# Altium footprint library Lib_foot_Radar.PcbLib: 80 footprints (part 2 of 5)
Each footprint in its own frame and in the unit in brackets; x right, y up, seen from the top. Pads: shape width x height; smd on the part's side, far side on the other; paste and mask are expansions set on the pad; w line width, h text height; cw(c..) or ccw(c..) is an arc to the next point about the centre after c.
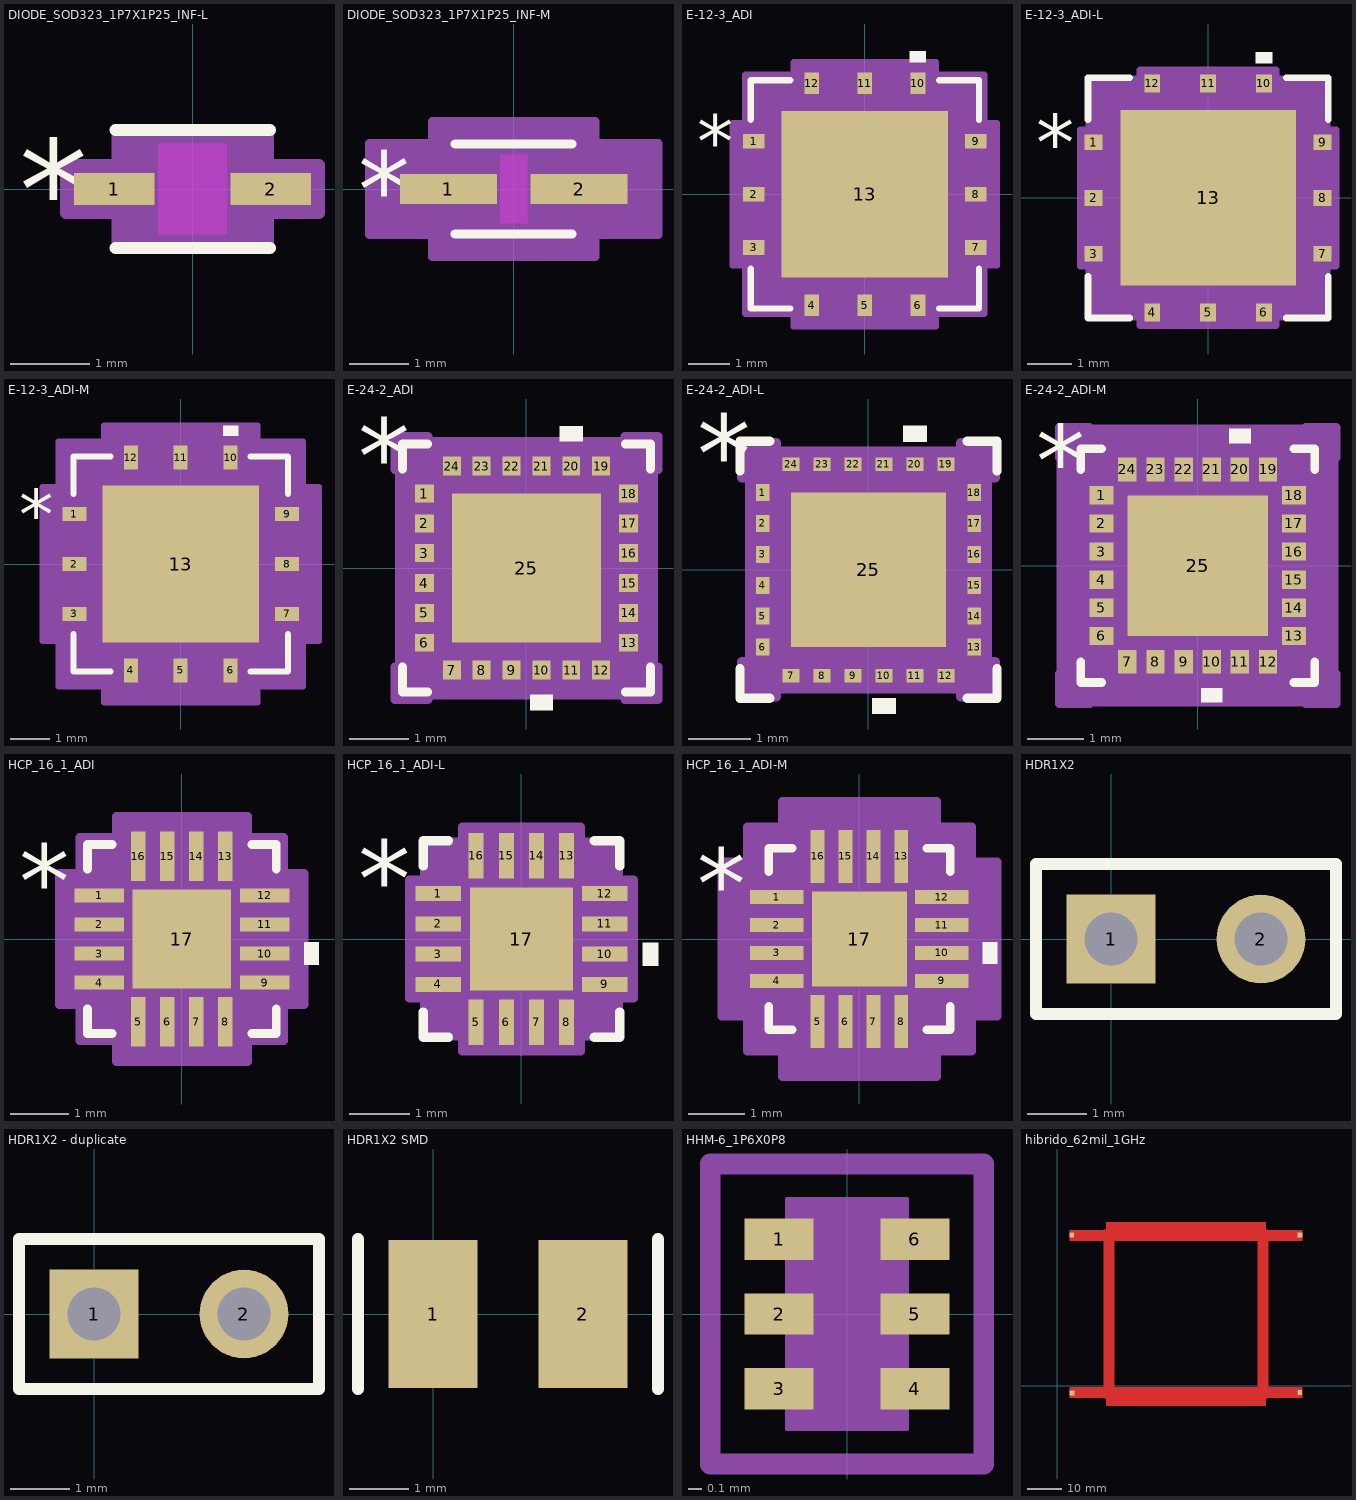
[diagram p1: the footprints below, top view; thin cyan lines are the x and y axes]

## DIODE_SOD323_1P7X1P25_INF-L [mil]
pads (2):
  rect 40x16 smd paste+0 mask+0: 1(-39,0) 2(39,0)
Top Overlay:
  lines w6: -38.5,-29.5 38.5,-29.5 ; -38.5,29.5 38.5,29.5
  text "*" at -86.5,-25 h50
Keep-Out Layer:
  region: -17,-22.5 -17,22.5 17,22.5 17,-22.5
Mechanical 13:
  lines w1: -33.5,-12.25 -21.25,-24.5 ; -33.5,12.25 -21.25,24.5 ; -53,-8 -33.5,-8 -33.5,8 -53,8 -53,-8 ; -33.5,-24.5 -33.5,24.5 33.5,24.5 33.5,-24.5 -33.5,-24.5 ; 33.5,-8 53,-8 53,8 33.5,8 33.5,-8
  text "*" at -36,-25 h50
Mechanical 15:
  region: -37.5,-12 -63,-12 -63,12 -37.5,12 -37.5,28.5 37.5,28.5 37.5,12 63,12 63,-12 37.5,-12 37.5,-28.5 -37.5,-28.5
  lines w6: -63,-12 -37.5,-12 -37.5,-28.5 37.5,-28.5 37.5,-12 63,-12 63,12 37.5,12 37.5,28.5 -37.5,28.5 -37.5,12 -63,12 -63,-12
3D body "DIODE_SOD323_1P7X1P25_INF.step": height 43.11, standoff 0, extent -52.99,-24.49 52.99,24.49

## DIODE_SOD323_1P7X1P25_INF-M [mil]
pads (2):
  rect 64x20 smd paste+0 mask+0: 1(-43,0) 2(43,0)
Top Overlay:
  lines w6: -38.5,-29.5 38.5,-29.5 ; -38.5,29.5 38.5,29.5
  text "*" at -102.5,-25 h50
Keep-Out Layer:
  region: -9,-22.5 -9,22.5 9,22.5 9,-22.5
Mechanical 13:
  lines w1: -33.5,-12.25 -21.25,-24.5 ; -33.5,12.25 -21.25,24.5 ; -53,-8 -33.5,-8 -33.5,8 -53,8 -53,-8 ; -33.5,-24.5 -33.5,24.5 33.5,24.5 33.5,-24.5 -33.5,-24.5 ; 33.5,-8 53,-8 53,8 33.5,8 33.5,-8
  text "*" at -36,-25 h50
Mechanical 15:
  region: -53.5,-30 -95,-30 -95,30 -53.5,30 -53.5,44.5 53.5,44.5 53.5,30 95,30 95,-30 53.5,-30 53.5,-44.5 -53.5,-44.5
  lines w6: -95,-30 -53.5,-30 -53.5,-44.5 53.5,-44.5 53.5,-30 95,-30 95,30 53.5,30 53.5,44.5 -53.5,44.5 -53.5,30 -95,30 -95,-30
3D body "DIODE_SOD323_1P7X1P25_INF.step": height 43.11, standoff 0, extent -52.99,-24.49 52.99,24.49

## E-12-3_ADI [mil]
pads (13):
  rect 20x14 smd paste+0 mask+0: 1(-104.5,50) 2(-104.5,0) 3(-104.5,-50) 7(104.5,-50) 8(104.5,0) 9(104.5,50)
  rect 14x20 smd paste+0 mask+0: 4(-50,-104.5) 5(0,-104.5) 6(50,-104.5) 10(50,104.5) 11(0,104.5) 12(-50,104.5)
  rect 157x157 smd paste+0 mask+0: 13(0,0)
Top Overlay:
  region: 57.5,124.5 42.5,124.5 42.5,134.5 57.5,134.5
  lines w6: -107.5,-70.1 -107.5,-107.5 -70.1,-107.5 ; -107.5,70.1 -107.5,107.5 -70.1,107.5 ; 70.1,-107.5 107.5,-107.5 107.5,-70.1 ; 70.1,107.5 107.5,107.5 107.5,70.1
  text "*" at -158,25 h50
Mechanical 13:
  lines w1: -102.5,52.5 -52.5,102.5 ; -102.5,-102.5 102.5,-102.5 102.5,102.5 -102.5,102.5 -102.5,-102.5 ; -102.5,-58 -102.5,-42 -102.5,-58 ; -102.5,-8 -102.5,8 -102.5,-8 ; -102.5,42 -102.5,58 -102.5,42 ; -58,-102.5 -42,-102.5 -58,-102.5 ; -58,102.5 -42,102.5 -58,102.5 ; -8,-102.5 8,-102.5 -8,-102.5 ; -8,102.5 8,102.5 -8,102.5 ; 42,-102.5 58,-102.5 42,-102.5 ; 42,102.5 58,102.5 42,102.5 ; 102.5,-58 102.5,-42 102.5,-58 ; 102.5,-8 102.5,8 102.5,-8 ; 102.5,42 102.5,58 102.5,42
  text "*" at -76,25 h50
Mechanical 15:
  region: -67,-112.5 -112.5,-112.5 -112.5,-67 -124.5,-67 -124.5,67 -112.5,67 -112.5,112.5 -67,112.5 -67,124.5 67,124.5 67,112.5 112.5,112.5 112.5,67 124.5,67 124.5,-67 112.5,-67 112.5,-112.5 67,-112.5 67,-124.5 -67,-124.5
  lines w6: -124.5,-67 -112.5,-67 -112.5,-112.5 -67,-112.5 -67,-124.5 67,-124.5 67,-112.5 112.5,-112.5 112.5,-67 124.5,-67 124.5,67 112.5,67 112.5,112.5 67,112.5 67,124.5 -67,124.5 -67,112.5 -112.5,112.5 -112.5,67 -124.5,67 -124.5,-67
3D body "E-12-3_ADI.step": height 50.12, standoff 0, extent -102.52,-102.52 102.52,102.52

## E-12-3_ADI-L [mil]
pads (13):
  rect 16x14 smd paste+0 mask+0: 1(-102.5,50) 2(-102.5,0) 3(-102.5,-50) 7(102.5,-50) 8(102.5,0) 9(102.5,50)
  rect 14x16 smd paste+0 mask+0: 4(-50,-102.5) 5(0,-102.5) 6(50,-102.5) 10(50,102.5) 11(0,102.5) 12(-50,102.5)
  rect 157x157 smd paste+0 mask+0: 13(0,0)
Top Overlay:
  region: 57.5,120.5 42.5,120.5 42.5,130.5 57.5,130.5
  lines w6: -107.5,-70.1 -107.5,-107.5 -70.1,-107.5 ; -107.5,70.1 -107.5,107.5 -70.1,107.5 ; 70.1,-107.5 107.5,-107.5 107.5,-70.1 ; 70.1,107.5 107.5,107.5 107.5,70.1
  text "*" at -154,25 h50
Mechanical 13:
  lines w1: -102.5,52.5 -52.5,102.5 ; -102.5,-102.5 102.5,-102.5 102.5,102.5 -102.5,102.5 -102.5,-102.5 ; -102.5,-58 -102.5,-42 -102.5,-58 ; -102.5,-8 -102.5,8 -102.5,-8 ; -102.5,42 -102.5,58 -102.5,42 ; -58,-102.5 -42,-102.5 -58,-102.5 ; -58,102.5 -42,102.5 -58,102.5 ; -8,-102.5 8,-102.5 -8,-102.5 ; -8,102.5 8,102.5 -8,102.5 ; 42,-102.5 58,-102.5 42,-102.5 ; 42,102.5 58,102.5 42,102.5 ; 102.5,-58 102.5,-42 102.5,-58 ; 102.5,-8 102.5,8 102.5,-8 ; 102.5,42 102.5,58 102.5,42
  text "*" at -76,25 h50
Mechanical 15:
  region: -61,-106.5 -106.5,-106.5 -106.5,-61 -114.5,-61 -114.5,61 -106.5,61 -106.5,106.5 -61,106.5 -61,114.5 61,114.5 61,106.5 106.5,106.5 106.5,61 114.5,61 114.5,-61 106.5,-61 106.5,-106.5 61,-106.5 61,-114.5 -61,-114.5
  lines w6: -114.5,-61 -106.5,-61 -106.5,-106.5 -61,-106.5 -61,-114.5 61,-114.5 61,-106.5 106.5,-106.5 106.5,-61 114.5,-61 114.5,61 106.5,61 106.5,106.5 61,106.5 61,114.5 -61,114.5 -61,106.5 -106.5,106.5 -106.5,61 -114.5,61 -114.5,-61
3D body "E-12-3_ADI.step": height 50.12, standoff 0, extent -102.52,-102.52 102.52,102.52

## E-12-3_ADI-M [mil]
pads (13):
  rect 24x14 smd paste+0 mask+0: 1(-106.5,50) 2(-106.5,0) 3(-106.5,-50) 7(106.5,-50) 8(106.5,0) 9(106.5,50)
  rect 14x24 smd paste+0 mask+0: 4(-50,-106.5) 5(0,-106.5) 6(50,-106.5) 10(50,106.5) 11(0,106.5) 12(-50,106.5)
  rect 157x157 smd paste+0 mask+0: 13(0,0)
Top Overlay:
  region: 57.5,128.5 42.5,128.5 42.5,138.5 57.5,138.5
  lines w6: -107.5,-70.1 -107.5,-107.5 -70.1,-107.5 ; -107.5,70.1 -107.5,107.5 -70.1,107.5 ; 70.1,-107.5 107.5,-107.5 107.5,-70.1 ; 70.1,107.5 107.5,107.5 107.5,70.1
  text "*" at -162,25 h50
Mechanical 13:
  lines w1: -102.5,52.5 -52.5,102.5 ; -102.5,-102.5 102.5,-102.5 102.5,102.5 -102.5,102.5 -102.5,-102.5 ; -102.5,-58 -102.5,-42 -102.5,-58 ; -102.5,-8 -102.5,8 -102.5,-8 ; -102.5,42 -102.5,58 -102.5,42 ; -58,-102.5 -42,-102.5 -58,-102.5 ; -58,102.5 -42,102.5 -58,102.5 ; -8,-102.5 8,-102.5 -8,-102.5 ; -8,102.5 8,102.5 -8,102.5 ; 42,-102.5 58,-102.5 42,-102.5 ; 42,102.5 58,102.5 42,102.5 ; 102.5,-58 102.5,-42 102.5,-58 ; 102.5,-8 102.5,8 102.5,-8 ; 102.5,42 102.5,58 102.5,42
  text "*" at -76,25 h50
Mechanical 15:
  region: -77,-122.5 -122.5,-122.5 -122.5,-77 -138.5,-77 -138.5,77 -122.5,77 -122.5,122.5 -77,122.5 -77,138.5 77,138.5 77,122.5 122.5,122.5 122.5,77 138.5,77 138.5,-77 122.5,-77 122.5,-122.5 77,-122.5 77,-138.5 -77,-138.5
  lines w6: -138.5,-77 -122.5,-77 -122.5,-122.5 -77,-122.5 -77,-138.5 77,-138.5 77,-122.5 122.5,-122.5 122.5,-77 138.5,-77 138.5,77 122.5,77 122.5,122.5 77,122.5 77,138.5 -77,138.5 -77,122.5 -122.5,122.5 -122.5,77 -138.5,77 -138.5,-77
3D body "E-12-3_ADI.step": height 50.12, standoff 0, extent -102.52,-102.52 102.52,102.52

## E-24-2_ADI [mm]
pads (25):
  rect 0.32x0.3 smd paste+0 mask+0: 1(-1.71,1.25) 2(-1.71,0.75) 3(-1.71,0.25) 4(-1.71,-0.25) 5(-1.71,-0.75) 6(-1.71,-1.25) 13(1.71,-1.25) 14(1.71,-0.75) 15(1.71,-0.25) 16(1.71,0.25) 17(1.71,0.75) 18(1.71,1.25)
  rect 0.3x0.32 smd paste+0 mask+0: 7(-1.25,-1.71) 8(-0.75,-1.71) 9(-0.25,-1.71) 10(0.25,-1.71) 11(0.75,-1.71) 12(1.25,-1.71) 19(1.25,1.71) 20(0.75,1.71) 21(0.25,1.71) 22(-0.25,1.71) 23(-0.75,1.71) 24(-1.25,1.71)
  rect 2.5x2.5 smd paste+0 mask+0: 25(0,0)
Top Overlay:
  region: 0.44,-2.124 0.059,-2.124 0.059,-2.378 0.44,-2.378
  region: 0.941,2.124 0.56,2.124 0.56,2.378 0.941,2.378
  lines w0.152: -2.077,-1.661 -2.077,-2.077 -1.661,-2.077 ; -2.077,1.661 -2.077,2.077 -1.661,2.077 ; 1.661,-2.077 2.077,-2.077 2.077,-1.661 ; 1.661,2.077 2.077,2.077 2.077,1.661
  text "*" at -2.823,1.246 h1.27
Mechanical 13:
  lines w0.025: -1.95,0.68 -0.68,1.95 ; -1.95,-1.95 1.95,-1.95 1.95,1.95 -1.95,1.95 -1.95,-1.95 ; -1.95,-1.4 -1.95,-1.1 -1.87,-1.1 -1.87,-1.4 -1.95,-1.4 ; -1.95,-0.9 -1.95,-0.6 -1.87,-0.6 -1.87,-0.9 -1.95,-0.9 ; -1.95,-0.4 -1.95,-0.1 -1.87,-0.1 -1.87,-0.4 -1.95,-0.4 ; -1.95,0.1 -1.95,0.4 -1.87,0.4 -1.87,0.1 -1.95,0.1 ; -1.95,0.6 -1.95,0.9 -1.87,0.9 -1.87,0.6 -1.95,0.6 ; -1.95,1.1 -1.95,1.4 -1.87,1.4 -1.87,1.1 -1.95,1.1 ; -1.4,-1.95 -1.1,-1.95 -1.1,-1.87 -1.4,-1.87 -1.4,-1.95 ; -1.4,1.87 -1.1,1.87 -1.1,1.95 -1.4,1.95 -1.4,1.87 ; -0.9,-1.95 -0.6,-1.95 -0.6,-1.87 -0.9,-1.87 -0.9,-1.95 ; -0.9,1.87 -0.6,1.87 -0.6,1.95 -0.9,1.95 -0.9,1.87 ; -0.4,-1.95 -0.1,-1.95 -0.1,-1.87 -0.4,-1.87 -0.4,-1.95 ; -0.4,1.87 -0.1,1.87 -0.1,1.95 -0.4,1.95 -0.4,1.87 ; 0.1,-1.95 0.4,-1.95 0.4,-1.87 0.1,-1.87 0.1,-1.95 ; 0.1,1.87 0.4,1.87 0.4,1.95 0.1,1.95 0.1,1.87 ; 0.6,-1.95 0.9,-1.95 0.9,-1.87 0.6,-1.87 0.6,-1.95 ; 0.6,1.87 0.9,1.87 0.9,1.95 0.6,1.95 0.6,1.87 ; 1.1,-1.95 1.4,-1.95 1.4,-1.87 1.1,-1.87 1.1,-1.95 ; 1.1,1.87 1.4,1.87 1.4,1.95 1.1,1.95 1.1,1.87 ; 1.87,-1.4 1.95,-1.4 1.95,-1.1 1.87,-1.1 1.87,-1.4 ; 1.87,-0.9 1.95,-0.9 1.95,-0.6 1.87,-0.6 1.87,-0.9 ; 1.87,-0.4 1.95,-0.4 1.95,-0.1 1.87,-0.1 1.87,-0.4 ; 1.87,0.1 1.95,0.1 1.95,0.4 1.87,0.4 1.87,0.1 ; 1.87,0.6 1.95,0.6 1.95,0.9 1.87,0.9 1.87,0.6 ; 1.87,1.1 1.95,1.1 1.95,1.4 1.87,1.4 1.87,1.1
  text "*" at -1.759,0.172 h1.27
Mechanical 15:
  region: -1.654,-2.204 -2.204,-2.204 -2.204,-1.654 -2.124,-1.654 -2.124,1.654 -2.204,1.654 -2.204,2.204 -1.654,2.204 -1.654,2.124 1.654,2.124 1.654,2.204 2.204,2.204 2.204,1.654 2.124,1.654 2.124,-1.654 2.204,-1.654 2.204,-2.204 1.654,-2.204 1.654,-2.124 -1.654,-2.124
  lines w0.152: -2.204,-2.204 -2.204,-1.654 -2.124,-1.654 -2.124,1.654 -2.204,1.654 -2.204,2.204 -1.654,2.204 -1.654,2.124 1.654,2.124 1.654,2.204 2.204,2.204 2.204,1.654 2.124,1.654 2.124,-1.654 2.204,-1.654 2.204,-2.204 1.654,-2.204 1.654,-2.124 -1.654,-2.124 -1.654,-2.204 -2.204,-2.204
3D body "E-24-2_ADI.step": height 1.2, standoff 0, extent -2.001,-2.001 2.001,2.001

## E-24-2_ADI-L [mm]
pads (25):
  rect 0.218x0.275 smd paste+0 mask+0: 1(-1.71,1.25) 2(-1.71,0.75) 3(-1.71,0.25) 4(-1.71,-0.25) 5(-1.71,-0.75) 6(-1.71,-1.25) 13(1.71,-1.25) 14(1.71,-0.75) 15(1.71,-0.25) 16(1.71,0.25) 17(1.71,0.75) 18(1.71,1.25)
  rect 0.275x0.218 smd paste+0 mask+0: 7(-1.25,-1.71) 8(-0.75,-1.71) 9(-0.25,-1.71) 10(0.25,-1.71) 11(0.75,-1.71) 12(1.25,-1.71) 19(1.25,1.71) 20(0.75,1.71) 21(0.25,1.71) 22(-0.25,1.71) 23(-0.75,1.71) 24(-1.25,1.71)
  rect 2.5x2.5 smd paste+0 mask+0: 25(0,0)
Top Overlay:
  region: 0.44,-2.073 0.059,-2.073 0.059,-2.327 0.44,-2.327
  region: 0.941,2.073 0.56,2.073 0.56,2.327 0.941,2.327
  lines w0.152: -2.077,-1.598 -2.077,-2.077 -1.598,-2.077 ; -2.077,1.598 -2.077,2.077 -1.598,2.077 ; 1.598,-2.077 2.077,-2.077 2.077,-1.598 ; 1.598,2.077 2.077,2.077 2.077,1.598
  text "*" at -2.772,1.246 h1.27
Mechanical 13:
  lines w0.025: -1.95,0.68 -0.68,1.95 ; -1.95,-1.95 1.95,-1.95 1.95,1.95 -1.95,1.95 -1.95,-1.95 ; -1.95,-1.4 -1.95,-1.1 -1.87,-1.1 -1.87,-1.4 -1.95,-1.4 ; -1.95,-0.9 -1.95,-0.6 -1.87,-0.6 -1.87,-0.9 -1.95,-0.9 ; -1.95,-0.4 -1.95,-0.1 -1.87,-0.1 -1.87,-0.4 -1.95,-0.4 ; -1.95,0.1 -1.95,0.4 -1.87,0.4 -1.87,0.1 -1.95,0.1 ; -1.95,0.6 -1.95,0.9 -1.87,0.9 -1.87,0.6 -1.95,0.6 ; -1.95,1.1 -1.95,1.4 -1.87,1.4 -1.87,1.1 -1.95,1.1 ; -1.4,-1.95 -1.1,-1.95 -1.1,-1.87 -1.4,-1.87 -1.4,-1.95 ; -1.4,1.87 -1.1,1.87 -1.1,1.95 -1.4,1.95 -1.4,1.87 ; -0.9,-1.95 -0.6,-1.95 -0.6,-1.87 -0.9,-1.87 -0.9,-1.95 ; -0.9,1.87 -0.6,1.87 -0.6,1.95 -0.9,1.95 -0.9,1.87 ; -0.4,-1.95 -0.1,-1.95 -0.1,-1.87 -0.4,-1.87 -0.4,-1.95 ; -0.4,1.87 -0.1,1.87 -0.1,1.95 -0.4,1.95 -0.4,1.87 ; 0.1,-1.95 0.4,-1.95 0.4,-1.87 0.1,-1.87 0.1,-1.95 ; 0.1,1.87 0.4,1.87 0.4,1.95 0.1,1.95 0.1,1.87 ; 0.6,-1.95 0.9,-1.95 0.9,-1.87 0.6,-1.87 0.6,-1.95 ; 0.6,1.87 0.9,1.87 0.9,1.95 0.6,1.95 0.6,1.87 ; 1.1,-1.95 1.4,-1.95 1.4,-1.87 1.1,-1.87 1.1,-1.95 ; 1.1,1.87 1.4,1.87 1.4,1.95 1.1,1.95 1.1,1.87 ; 1.87,-1.4 1.95,-1.4 1.95,-1.1 1.87,-1.1 1.87,-1.4 ; 1.87,-0.9 1.95,-0.9 1.95,-0.6 1.87,-0.6 1.87,-0.9 ; 1.87,-0.4 1.95,-0.4 1.95,-0.1 1.87,-0.1 1.87,-0.4 ; 1.87,0.1 1.95,0.1 1.95,0.4 1.87,0.4 1.87,0.1 ; 1.87,0.6 1.95,0.6 1.95,0.9 1.87,0.9 1.87,0.6 ; 1.87,1.1 1.95,1.1 1.95,1.4 1.87,1.4 1.87,1.1
  text "*" at -1.759,0.172 h1.27
Mechanical 15:
  region: -1.489,-2.052 -2.052,-2.052 -2.052,-1.489 -1.921,-1.489 -1.921,1.489 -2.052,1.489 -2.052,2.052 -1.489,2.052 -1.489,1.921 1.489,1.921 1.489,2.052 2.052,2.052 2.052,1.489 1.921,1.489 1.921,-1.489 2.052,-1.489 2.052,-2.052 1.489,-2.052 1.489,-1.921 -1.489,-1.921
  lines w0.152: -2.052,-2.052 -2.052,-1.489 -1.921,-1.489 -1.921,1.489 -2.052,1.489 -2.052,2.052 -1.489,2.052 -1.489,1.921 1.489,1.921 1.489,2.052 2.052,2.052 2.052,1.489 1.921,1.489 1.921,-1.489 2.052,-1.489 2.052,-2.052 1.489,-2.052 1.489,-1.921 -1.489,-1.921 -1.489,-2.052 -2.052,-2.052
3D body "E-24-2_ADI.step": height 1.2, standoff 0, extent -2.001,-2.001 2.001,2.001

## E-24-2_ADI-M [mm]
pads (25):
  rect 0.422x0.325 smd paste+0 mask+0: 1(-1.71,1.25) 2(-1.71,0.75) 3(-1.71,0.25) 4(-1.71,-0.25) 5(-1.71,-0.75) 6(-1.71,-1.25) 13(1.71,-1.25) 14(1.71,-0.75) 15(1.71,-0.25) 16(1.71,0.25) 17(1.71,0.75) 18(1.71,1.25)
  rect 0.325x0.422 smd paste+0 mask+0: 7(-1.25,-1.71) 8(-0.75,-1.71) 9(-0.25,-1.71) 10(0.25,-1.71) 11(0.75,-1.71) 12(1.25,-1.71) 19(1.25,1.71) 20(0.75,1.71) 21(0.25,1.71) 22(-0.25,1.71) 23(-0.75,1.71) 24(-1.25,1.71)
  rect 2.5x2.5 smd paste+0 mask+0: 25(0,0)
Top Overlay:
  region: 0.941,2.175 0.56,2.175 0.56,2.429 0.941,2.429
  region: 0.44,-2.175 0.059,-2.175 0.059,-2.429 0.44,-2.429
  lines w0.152: -2.077,-1.706 -2.077,-2.077 -1.706,-2.077 ; -2.077,1.706 -2.077,2.077 -1.706,2.077 ; 1.706,-2.077 2.077,-2.077 2.077,-1.706 ; 1.706,2.077 2.077,2.077 2.077,1.706
  text "*" at -2.873,1.246 h1.27
Mechanical 13:
  lines w0.025: -1.95,0.68 -0.68,1.95 ; -1.95,-1.95 -1.95,1.95 1.95,1.95 1.95,-1.95 -1.95,-1.95 ; -1.95,-1.4 -1.87,-1.4 -1.87,-1.1 -1.95,-1.1 -1.95,-1.4 ; -1.95,-0.9 -1.87,-0.9 -1.87,-0.6 -1.95,-0.6 -1.95,-0.9 ; -1.95,-0.4 -1.87,-0.4 -1.87,-0.1 -1.95,-0.1 -1.95,-0.4 ; -1.95,0.1 -1.87,0.1 -1.87,0.4 -1.95,0.4 -1.95,0.1 ; -1.95,0.6 -1.87,0.6 -1.87,0.9 -1.95,0.9 -1.95,0.6 ; -1.95,1.1 -1.87,1.1 -1.87,1.4 -1.95,1.4 -1.95,1.1 ; -1.4,-1.95 -1.4,-1.87 -1.1,-1.87 -1.1,-1.95 -1.4,-1.95 ; -1.4,1.87 -1.4,1.95 -1.1,1.95 -1.1,1.87 -1.4,1.87 ; -0.9,-1.95 -0.9,-1.87 -0.6,-1.87 -0.6,-1.95 -0.9,-1.95 ; -0.9,1.87 -0.9,1.95 -0.6,1.95 -0.6,1.87 -0.9,1.87 ; -0.4,-1.95 -0.4,-1.87 -0.1,-1.87 -0.1,-1.95 -0.4,-1.95 ; -0.4,1.87 -0.4,1.95 -0.1,1.95 -0.1,1.87 -0.4,1.87 ; 0.1,-1.95 0.1,-1.87 0.4,-1.87 0.4,-1.95 0.1,-1.95 ; 0.1,1.87 0.1,1.95 0.4,1.95 0.4,1.87 0.1,1.87 ; 0.6,-1.95 0.6,-1.87 0.9,-1.87 0.9,-1.95 0.6,-1.95 ; 0.6,1.87 0.6,1.95 0.9,1.95 0.9,1.87 0.6,1.87 ; 1.1,-1.95 1.1,-1.87 1.4,-1.87 1.4,-1.95 1.1,-1.95 ; 1.1,1.87 1.1,1.95 1.4,1.95 1.4,1.87 1.1,1.87 ; 1.87,-1.4 1.87,-1.1 1.95,-1.1 1.95,-1.4 1.87,-1.4 ; 1.87,-0.9 1.87,-0.6 1.95,-0.6 1.95,-0.9 1.87,-0.9 ; 1.87,-0.4 1.87,-0.1 1.95,-0.1 1.95,-0.4 1.87,-0.4 ; 1.87,0.1 1.87,0.4 1.95,0.4 1.95,0.1 1.87,0.1 ; 1.87,0.6 1.87,0.9 1.95,0.9 1.95,0.6 1.87,0.6 ; 1.87,1.1 1.87,1.4 1.95,1.4 1.95,1.1 1.87,1.1
  text "*" at -1.759,0.172 h1.27
Mechanical 15:
  region: -1.921,-2.458 -2.458,-2.458 -2.458,-1.921 -2.429,-1.921 -2.429,1.921 -2.458,1.921 -2.458,2.458 -1.921,2.458 -1.921,2.429 1.921,2.429 1.921,2.458 2.458,2.458 2.458,1.921 2.429,1.921 2.429,-1.921 2.458,-1.921 2.458,-2.458 1.921,-2.458 1.921,-2.429 -1.921,-2.429
  lines w0.152: -2.458,-2.458 -1.921,-2.458 -1.921,-2.429 1.921,-2.429 1.921,-2.458 2.458,-2.458 2.458,-1.921 2.429,-1.921 2.429,1.921 2.458,1.921 2.458,2.458 1.921,2.458 1.921,2.429 -1.921,2.429 -1.921,2.458 -2.458,2.458 -2.458,1.921 -2.429,1.921 -2.429,-1.921 -2.458,-1.921 -2.458,-2.458
3D body "E-24-2_ADI.step": height 1.2, standoff 0, extent -2.001,-2.001 2.001,2.001

## HCP_16_1_ADI [mm]
pads (17):
  rect 0.855x0.249 smd paste+0 mask+0: 1(-1.427,0.75) 2(-1.427,0.25) 3(-1.427,-0.25) 4(-1.427,-0.75) 9(1.427,-0.75) 10(1.427,-0.25) 11(1.427,0.25) 12(1.427,0.75)
  rect 0.249x0.855 smd paste+0 mask+0: 5(-0.75,-1.427) 6(-0.25,-1.427) 7(0.25,-1.427) 8(0.75,-1.427) 13(0.75,1.427) 14(0.25,1.427) 15(-0.25,1.427) 16(-0.75,1.427)
  rect 1.7x1.7 smd paste+0 mask+0: 17(0,0)
Top Overlay:
  region: 2.109,-0.059 2.363,-0.059 2.363,-0.44 2.109,-0.44
  lines w0.152: -1.627,-1.207 -1.627,-1.627 -1.207,-1.627 ; -1.627,1.207 -1.627,1.627 -1.207,1.627 ; 1.207,-1.627 1.627,-1.627 1.627,-1.207 ; 1.207,1.627 1.627,1.627 1.627,1.207
  text "*" at -2.807,0.365 h1.27
Mechanical 13:
  lines w0.025: -1.5,0.23 -0.23,1.5 ; -1.55,-0.9 -1.55,-0.6 -1.5,-0.6 -1.5,-0.9 -1.55,-0.9 ; -1.55,-0.4 -1.55,-0.1 -1.5,-0.1 -1.5,-0.4 -1.55,-0.4 ; -1.55,0.1 -1.55,0.4 -1.5,0.4 -1.5,0.1 -1.55,0.1 ; -1.55,0.6 -1.55,0.9 -1.5,0.9 -1.5,0.6 -1.55,0.6 ; -1.5,-1.5 1.5,-1.5 1.5,1.5 -1.5,1.5 -1.5,-1.5 ; -0.9,-1.55 -0.9,-1.5 -0.6,-1.5 -0.6,-1.55 -0.9,-1.55 ; -0.9,1.5 -0.6,1.5 -0.6,1.55 -0.9,1.55 -0.9,1.5 ; -0.4,-1.55 -0.4,-1.5 -0.1,-1.5 -0.1,-1.55 -0.4,-1.55 ; -0.4,1.5 -0.1,1.5 -0.1,1.55 -0.4,1.55 -0.4,1.5 ; 0.1,-1.55 0.1,-1.5 0.4,-1.5 0.4,-1.55 0.1,-1.55 ; 0.1,1.5 0.4,1.5 0.4,1.55 0.1,1.55 0.1,1.5 ; 0.6,-1.55 0.6,-1.5 0.9,-1.5 0.9,-1.55 0.6,-1.55 ; 0.6,1.5 0.9,1.5 0.9,1.55 0.6,1.55 0.6,1.5 ; 1.5,-0.9 1.5,-0.6 1.55,-0.6 1.55,-0.9 1.5,-0.9 ; 1.5,-0.4 1.5,-0.1 1.55,-0.1 1.55,-0.4 1.5,-0.4 ; 1.5,0.1 1.5,0.4 1.55,0.4 1.55,0.1 1.5,0.1 ; 1.5,0.6 1.5,0.9 1.55,0.9 1.55,0.6 1.5,0.6
  text "*" at -1.318,0.365 h1.27
Mechanical 15:
  region: -1.129,-1.754 -1.754,-1.754 -1.754,-1.129 -2.109,-1.129 -2.109,1.129 -1.754,1.129 -1.754,1.754 -1.129,1.754 -1.129,2.109 1.129,2.109 1.129,1.754 1.754,1.754 1.754,1.129 2.109,1.129 2.109,-1.129 1.754,-1.129 1.754,-1.754 1.129,-1.754 1.129,-2.109 -1.129,-2.109
  lines w0.152: -2.109,-1.129 -1.754,-1.129 -1.754,-1.754 -1.129,-1.754 -1.129,-2.109 1.129,-2.109 1.129,-1.754 1.754,-1.754 1.754,-1.129 2.109,-1.129 2.109,1.129 1.754,1.129 1.754,1.754 1.129,1.754 1.129,2.109 -1.129,2.109 -1.129,1.754 -1.754,1.754 -1.754,1.129 -2.109,1.129 -2.109,-1.129
3D body "HCP_16_1_ADI.step": height 1, standoff 0, extent -1.55,-1.55 1.55,1.55

## HCP_16_1_ADI-L [mm]
pads (17):
  rect 0.753x0.249 smd paste+0 mask+0: 1(-1.377,0.75) 2(-1.377,0.25) 3(-1.377,-0.25) 4(-1.377,-0.75) 9(1.377,-0.75) 10(1.377,-0.25) 11(1.377,0.25) 12(1.377,0.75)
  rect 0.249x0.753 smd paste+0 mask+0: 5(-0.75,-1.377) 6(-0.25,-1.377) 7(0.25,-1.377) 8(0.75,-1.377) 13(0.75,1.377) 14(0.25,1.377) 15(-0.25,1.377) 16(-0.75,1.377)
  rect 1.7x1.7 smd paste+0 mask+0: 17(0,0)
Top Overlay:
  region: 2.007,-0.059 2.261,-0.059 2.261,-0.44 2.007,-0.44
  lines w0.152: -1.627,-1.207 -1.627,-1.627 -1.207,-1.627 ; -1.627,1.207 -1.627,1.627 -1.207,1.627 ; 1.207,-1.627 1.627,-1.627 1.627,-1.207 ; 1.207,1.627 1.627,1.627 1.627,1.207
  text "*" at -2.706,0.365 h1.27
Mechanical 13:
  lines w0.025: -1.5,0.23 -0.23,1.5 ; -1.55,-0.9 -1.55,-0.6 -1.5,-0.6 -1.5,-0.9 -1.55,-0.9 ; -1.55,-0.4 -1.55,-0.1 -1.5,-0.1 -1.5,-0.4 -1.55,-0.4 ; -1.55,0.1 -1.55,0.4 -1.5,0.4 -1.5,0.1 -1.55,0.1 ; -1.55,0.6 -1.55,0.9 -1.5,0.9 -1.5,0.6 -1.55,0.6 ; -1.5,-1.5 1.5,-1.5 1.5,1.5 -1.5,1.5 -1.5,-1.5 ; -0.9,-1.55 -0.9,-1.5 -0.6,-1.5 -0.6,-1.55 -0.9,-1.55 ; -0.9,1.5 -0.6,1.5 -0.6,1.55 -0.9,1.55 -0.9,1.5 ; -0.4,-1.55 -0.4,-1.5 -0.1,-1.5 -0.1,-1.55 -0.4,-1.55 ; -0.4,1.5 -0.1,1.5 -0.1,1.55 -0.4,1.55 -0.4,1.5 ; 0.1,-1.55 0.1,-1.5 0.4,-1.5 0.4,-1.55 0.1,-1.55 ; 0.1,1.5 0.4,1.5 0.4,1.55 0.1,1.55 0.1,1.5 ; 0.6,-1.55 0.6,-1.5 0.9,-1.5 0.9,-1.55 0.6,-1.55 ; 0.6,1.5 0.9,1.5 0.9,1.55 0.6,1.55 0.6,1.5 ; 1.5,-0.9 1.5,-0.6 1.55,-0.6 1.55,-0.9 1.5,-0.9 ; 1.5,-0.4 1.5,-0.1 1.55,-0.1 1.55,-0.4 1.5,-0.4 ; 1.5,0.1 1.5,0.4 1.55,0.4 1.55,0.1 1.5,0.1 ; 1.5,0.6 1.5,0.9 1.55,0.9 1.55,0.6 1.5,0.6
  text "*" at -1.318,0.365 h1.27
Mechanical 15:
  region: -0.976,-1.602 -1.602,-1.602 -1.602,-0.976 -1.855,-0.976 -1.855,0.976 -1.602,0.976 -1.602,1.602 -0.976,1.602 -0.976,1.855 0.976,1.855 0.976,1.602 1.602,1.602 1.602,0.976 1.855,0.976 1.855,-0.976 1.602,-0.976 1.602,-1.602 0.976,-1.602 0.976,-1.855 -0.976,-1.855
  lines w0.152: -1.855,-0.976 -1.602,-0.976 -1.602,-1.602 -0.976,-1.602 -0.976,-1.855 0.976,-1.855 0.976,-1.602 1.602,-1.602 1.602,-0.976 1.855,-0.976 1.855,0.976 1.602,0.976 1.602,1.602 0.976,1.602 0.976,1.855 -0.976,1.855 -0.976,1.602 -1.602,1.602 -1.602,0.976 -1.855,0.976 -1.855,-0.976
3D body "HCP_16_1_ADI.step": height 1, standoff 0, extent -1.55,-1.55 1.55,1.55

## HCP_16_1_ADI-M [mm]
pads (17):
  rect 0.956x0.249 smd paste+0 mask+0: 1(-1.478,0.75) 2(-1.478,0.25) 3(-1.478,-0.25) 4(-1.478,-0.75) 9(1.478,-0.75) 10(1.478,-0.25) 11(1.478,0.25) 12(1.478,0.75)
  rect 0.249x0.956 smd paste+0 mask+0: 5(-0.75,-1.478) 6(-0.25,-1.478) 7(0.25,-1.478) 8(0.75,-1.478) 13(0.75,1.478) 14(0.25,1.478) 15(-0.25,1.478) 16(-0.75,1.478)
  rect 1.7x1.7 smd paste+0 mask+0: 17(0,0)
Top Overlay:
  region: 2.21,-0.059 2.464,-0.059 2.464,-0.44 2.21,-0.44
  lines w0.152: -1.627,-1.207 -1.627,-1.627 -1.207,-1.627 ; -1.627,1.207 -1.627,1.627 -1.207,1.627 ; 1.207,-1.627 1.627,-1.627 1.627,-1.207 ; 1.207,1.627 1.627,1.627 1.627,1.207
  text "*" at -2.909,0.365 h1.27
Mechanical 13:
  lines w0.025: -1.5,0.23 -0.23,1.5 ; -1.55,-0.9 -1.5,-0.9 -1.5,-0.6 -1.55,-0.6 -1.55,-0.9 ; -1.55,-0.4 -1.5,-0.4 -1.5,-0.1 -1.55,-0.1 -1.55,-0.4 ; -1.55,0.1 -1.5,0.1 -1.5,0.4 -1.55,0.4 -1.55,0.1 ; -1.55,0.6 -1.5,0.6 -1.5,0.9 -1.55,0.9 -1.55,0.6 ; -1.5,-1.5 -1.5,1.5 1.5,1.5 1.5,-1.5 -1.5,-1.5 ; -0.9,-1.55 -0.6,-1.55 -0.6,-1.5 -0.9,-1.5 -0.9,-1.55 ; -0.9,1.5 -0.9,1.55 -0.6,1.55 -0.6,1.5 -0.9,1.5 ; -0.4,-1.55 -0.1,-1.55 -0.1,-1.5 -0.4,-1.5 -0.4,-1.55 ; -0.4,1.5 -0.4,1.55 -0.1,1.55 -0.1,1.5 -0.4,1.5 ; 0.1,-1.55 0.4,-1.55 0.4,-1.5 0.1,-1.5 0.1,-1.55 ; 0.1,1.5 0.1,1.55 0.4,1.55 0.4,1.5 0.1,1.5 ; 0.6,-1.55 0.9,-1.55 0.9,-1.5 0.6,-1.5 0.6,-1.55 ; 0.6,1.5 0.6,1.55 0.9,1.55 0.9,1.5 0.6,1.5 ; 1.5,-0.9 1.55,-0.9 1.55,-0.6 1.5,-0.6 1.5,-0.9 ; 1.5,-0.4 1.55,-0.4 1.55,-0.1 1.5,-0.1 1.5,-0.4 ; 1.5,0.1 1.55,0.1 1.55,0.4 1.5,0.4 1.5,0.1 ; 1.5,0.6 1.55,0.6 1.55,0.9 1.5,0.9 1.5,0.6
  text "*" at -1.318,0.365 h1.27
Mechanical 15:
  region: -1.383,-2.008 -2.008,-2.008 -2.008,-1.383 -2.464,-1.383 -2.464,1.383 -2.008,1.383 -2.008,2.008 -1.383,2.008 -1.383,2.464 1.383,2.464 1.383,2.008 2.008,2.008 2.008,1.383 2.464,1.383 2.464,-1.383 2.008,-1.383 2.008,-2.008 1.383,-2.008 1.383,-2.464 -1.383,-2.464
  lines w0.152: -2.464,-1.383 -2.464,1.383 -2.008,1.383 -2.008,2.008 -1.383,2.008 -1.383,2.464 1.383,2.464 1.383,2.008 2.008,2.008 2.008,1.383 2.464,1.383 2.464,-1.383 2.008,-1.383 2.008,-2.008 1.383,-2.008 1.383,-2.464 -1.383,-2.464 -1.383,-2.008 -2.008,-2.008 -2.008,-1.383 -2.464,-1.383
3D body "HCP_16_1_ADI.step": height 1, standoff 0, extent -1.55,-1.55 1.55,1.55

## HDR1X2 [mm]
pads (2):
  rect 1.5x1.5 hole 0.9: 1(0,0)
  round 1.5 hole 0.9: 2(2.54,0)
Top Overlay:
  lines w0.2: -1.27,-1.27 -1.27,1.27 3.81,1.27 3.81,-1.27 -1.27,-1.27

## HDR1X2 - duplicate [mm]
pads (2):
  rect 1.5x1.5 hole 0.9: 1(0,0)
  round 1.5 hole 0.9: 2(2.54,0)
Top Overlay:
  lines w0.2: -1.27,-1.27 -1.27,1.27 3.81,1.27 3.81,-1.27 -1.27,-1.27

## HDR1X2 SMD [mm]
pads (2):
  rect 1.5x2.5 smd: 1(0,0) 2(2.54,0)
Top Overlay:
  lines w0.2: -1.27,-1.27 -1.27,1.27 ; 3.81,-1.27 3.81,1.27

## HHM-6_1P6X0P8 [mil]
pads (6):
  rect 20x12 smd paste+0 mask+0: 1(-19.68,21.65) 2(-19.68,0) 3(-19.68,-21.65) 4(19.68,-21.65) 5(19.68,0) 6(19.68,21.65)
Mechanical 13:
  lines w1: -17.5,23.5 -7.5,33.5 ; -17.5,-33.5 17.5,-33.5 17.5,33.5 -17.5,33.5 -17.5,-33.5
Mechanical 15:
  region: 17.5,-33.5 -17.5,-33.5 -17.5,33.5 17.5,33.5
  lines w6: -39.69,-43.5 -39.69,43.5 39.69,43.5 39.69,-43.5 -39.69,-43.5
3D body "HHM-6_1P6X0P8.step": height 27.99, standoff 0, extent -18.5,-33.5 18.5,33.5

## hibrido_62mil_1GHz [mil]
pads (4):
  rect 56.3x56.3 smd paste+0 mask+0: 1(165,1726) 2(168,-83) 3(2783,1727) 4(2780,-78)
Top Layer:
  rectangle: 656.41,1659.62 2294.2,1874.98
  region: 530.43,1659.62 530.43,-17.54 656.41,-17.54 656.41,1659.62
  region: 530.43,1785.61 136.72,1785.61 136.72,1659.62 530.43,1659.62
  rectangle: 656.41,-231.92 2294.2,-16.57
  region: 530.43,-16.94 136.72,-16.94 136.72,-142.92 530.43,-142.92
  region: 2420.19,-16.57 2420.19,1660.6 2294.21,1660.6 2294.21,-16.57
  rectangle: 2420.19,-142.55 2813.89,-16.57
  rectangle: 2420.19,1659.99 2813.89,1785.98
  region: 530.43,1785 530.43,1659.62 657,1659.62 657,1874 558.57,1874 558.57,1785
  region: 530.43,-142.92 530.43,-17.54 656.41,-17.54 656.41,-231.92 558.57,-231.92 558.57,-142.92
  region: 2420.19,-141.94 2420.19,-16.57 2293.61,-16.57 2293.61,-230.94 2392.04,-230.94 2392.04,-141.94
  region: 2420.19,1785.98 2420.19,1660.6 2294.2,1660.6 2294.2,1874.98 2392.04,1874.98 2392.04,1785.98